# Altium schematic symbol library InterfaceIC.SchLib: 4 symbols
Pins are listed as number, name and electrical type; pins without a type are passive.

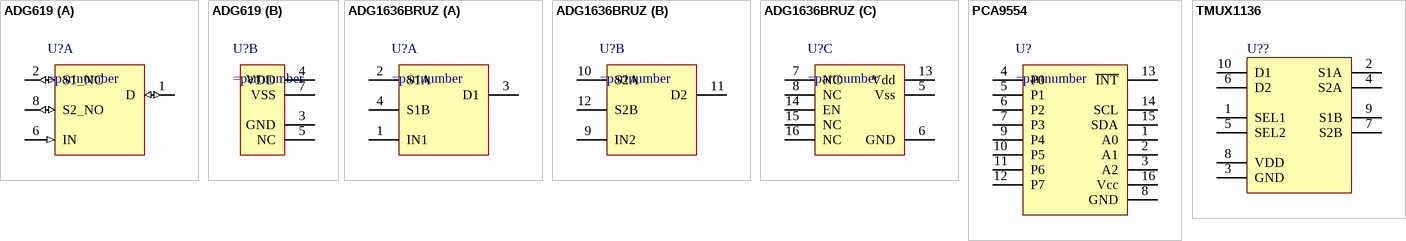
[diagram p0: symbols ADG619 to TMUX1136]

## ADG619
designator U?
part A pins: 1 D (io), 2 S1_NC (io), 6 IN (in), 8 S2_NO (io)
part B pins: 3 GND, 4 VDD (oc), 5 NC, 7 VSS (oc)

## ADG1636BRUZ
designator U?
part A pins: 1 IN1, 2 S1A, 3 D1, 4 S1B
part B pins: 9 IN2, 10 S2A, 11 D2, 12 S2B
part C pins: 5 Vss, 6 GND, 7 NC, 8 NC, 13 Vdd, 14 EN, 15 NC, 16 NC

## PCA9554
designator U?
pins: 1 A0, 2 A1, 3 A2, 4 P0, 5 P1, 6 P2, 7 P3, 8 GND, 9 P4, 10 P5, 11 P6, 12 P7, 13 ~{INT}, 14 SCL, 15 SDA, 16 Vcc

## TMUX1136
designator U??
pins: 1 SEL1, 2 S1A, 3 GND, 4 S2A, 5 SEL2, 6 D2, 7 S2B, 8 VDD, 9 S1B, 10 D1